# EAGLE library part AX88796L (library asix)
3-in-1 Local Bus Fast Ethernet Controller 10/100BASE 3-in-1 Local CPU Bus Fast Ethernet Controller with Embedded SRAM
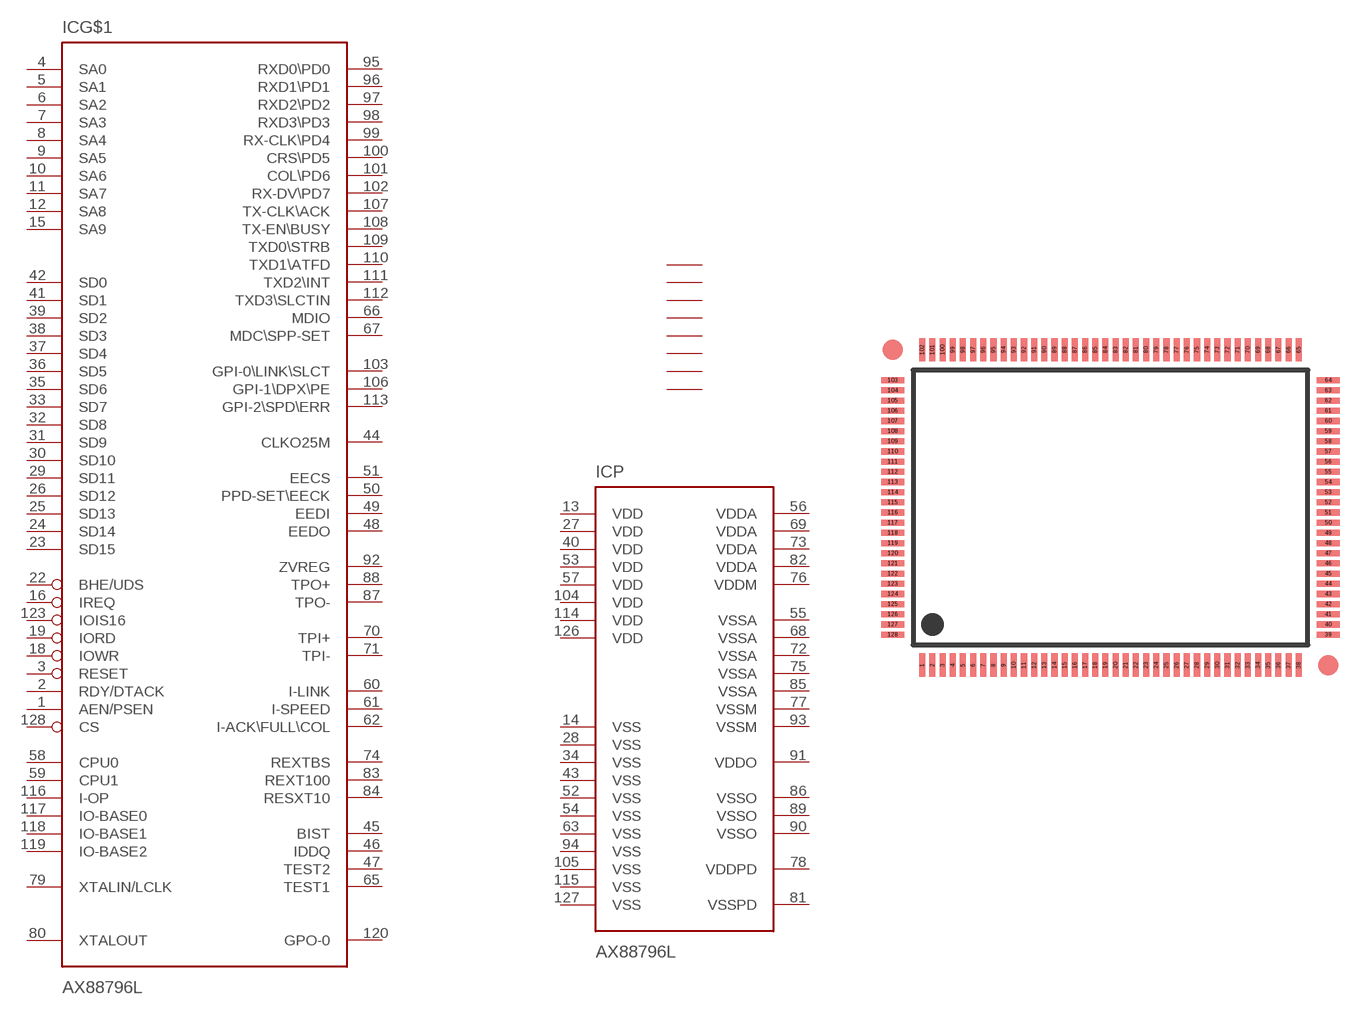
[diagram p0: symbol with the pads of LQFP128-20X14X16; footprint LQFP128-20X14X16]

Designator prefix IC; gates G$1=AX88796 P=POWER N=NONC

## AX88796L  [LQFP128-20X14X16]
1  G$1:AEN/PSEN  in
2  G$1:RDY/DTACK  out
3  G$1:RESET  in
4  G$1:SA0  in
5  G$1:SA1  in
6  G$1:SA2  in
7  G$1:SA3  in
8  G$1:SA4  in
9  G$1:SA5  in
10  G$1:SA6  in
11  G$1:SA7  in
12  G$1:SA8  in
13  P:VDD  pwr
14  P:VSS  pwr
15  G$1:SA9  in
16  G$1:IREQ  out
17  N:P$1  nc
18  G$1:IOWR  in
19  G$1:IORD  in
20  N:P$2  nc
21  N:P$3  nc
22  G$1:BHE/UDS  in
23  G$1:SD15
24  G$1:SD14
25  G$1:SD13
26  G$1:SD12
27  P:VDD  pwr
28  P:VSS  pwr
29  G$1:SD11
30  G$1:SD10
31  G$1:SD9
32  G$1:SD8
33  G$1:SD7
34  P:VSS  pwr
35  G$1:SD6
36  G$1:SD5
37  G$1:SD4
38  G$1:SD3
39  G$1:SD2
40  P:VDD  pwr
41  G$1:SD1
42  G$1:SD0
43  P:VSS  pwr
44  G$1:CLKO25M  out
45  G$1:BIST  in
46  G$1:IDDQ  in
47  G$1:TEST2  in
48  G$1:EEDO  in
49  G$1:EEDI  out
50  G$1:PPD-SET\EECK  out
51  G$1:EECS  out
52  P:VSS  pwr
53  P:VDD  pwr
54  P:VSS  pwr
55  P:VSSA  pwr
56  P:VDDA  pwr
57  P:VDD  pwr
58  G$1:CPU0  in
59  G$1:CPU1  in
60  G$1:I-LINK  out
61  G$1:I-SPEED  out
62  G$1:I-ACK\FULL\COL  out
63  P:VSS  pwr
64  N:P$4  nc
65  G$1:TEST1  in
66  G$1:MDIO
67  G$1:MDC\SPP-SET
68  P:VSSA  pwr
69  P:VDDA  pwr
70  G$1:TPI+  in
71  G$1:TPI-  in
72  P:VSSA  pwr
73  P:VDDA  pwr
74  G$1:REXTBS  in
75  P:VSSA  pwr
76  P:VDDM  pwr
77  P:VSSM  pwr
78  P:VDDPD  pwr
79  G$1:XTALIN/LCLK
80  G$1:XTALOUT
81  P:VSSPD  pwr
82  P:VDDA  pwr
83  G$1:REXT100  in
84  G$1:RESXT10  in
85  P:VSSA  pwr
86  P:VSSO  pwr
87  G$1:TPO-  out
88  G$1:TPO+  out
89  P:VSSO  pwr
90  P:VSSO  pwr
91  P:VDDO  pwr
92  G$1:ZVREG
93  P:VSSM  pwr
94  P:VSS  pwr
95  G$1:RXD0\PD0  in
96  G$1:RXD1\PD1  in
97  G$1:RXD2\PD2  in
98  G$1:RXD3\PD3  in
99  G$1:RX-CLK\PD4  in
100  G$1:CRS\PD5  in
101  G$1:COL\PD6
102  G$1:RX-DV\PD7  in
103  G$1:GPI-0\LINK\SLCT
104  P:VDD  pwr
105  P:VSS  pwr
106  G$1:GPI-1\DPX\PE
107  G$1:TX-CLK\ACK  in
108  G$1:TX-EN\BUSY
109  G$1:TXD0\STRB  out
110  G$1:TXD1\ATFD  out
111  G$1:TXD2\INT  out
112  G$1:TXD3\SLCTIN  out
113  G$1:GPI-2\SPD\ERR
114  P:VDD  pwr
115  P:VSS  pwr
116  G$1:I-OP  in
117  G$1:IO-BASE0  in
118  G$1:IO-BASE1  in
119  G$1:IO-BASE2  in
120  G$1:GPO-0
121  N:P$8  nc
122  N:P$5  nc
123  G$1:IOIS16
124  N:P$6  nc
125  N:P$7  nc
126  P:VDD  pwr
127  P:VSS  pwr
128  G$1:CS  in

## Footprint LQFP128-20X14X16 (pad centres in mm)
LQFP128 IPC7351 - TSQFP50P1600X2200X160-128N
smd 0.3 x 1.15: 1 -9.25,-7.75; 2 -8.75,-7.75; 3 -8.25,-7.75; 4 -7.75,-7.75; 5 -7.25,-7.75; 6 -6.75,-7.75; 7 -6.25,-7.75; 8 -5.75,-7.75; 9 -5.25,-7.75; 10 -4.75,-7.75; 11 -4.25,-7.75; 12 -3.75,-7.75; 13 -3.25,-7.75; 14 -2.75,-7.75; 15 -2.25,-7.75; 16 -1.75,-7.75; 17 -1.25,-7.75; 18 -0.75,-7.75; 19 -0.25,-7.75; 20 0.25,-7.75; 21 0.75,-7.75; 22 1.25,-7.75; 23 1.75,-7.75; 24 2.25,-7.75; 25 2.75,-7.75; 26 3.25,-7.75; 27 3.75,-7.75; 28 4.25,-7.75; 29 4.75,-7.75; 30 5.25,-7.75; 31 5.75,-7.75; 32 6.25,-7.75; 33 6.75,-7.75; 34 7.25,-7.75; 35 7.75,-7.75; 36 8.25,-7.75; 37 8.75,-7.75; 38 9.25,-7.75; 65 9.25,7.75; 66 8.75,7.75; 67 8.25,7.75; 68 7.75,7.75; 69 7.25,7.75; 70 6.75,7.75; 71 6.25,7.75; 72 5.75,7.75; 73 5.25,7.75; 74 4.75,7.75; 75 4.25,7.75; 76 3.75,7.75; 77 3.25,7.75; 78 2.75,7.75; 79 2.25,7.75; 80 1.75,7.75; 81 1.25,7.75; 82 0.75,7.75; 83 0.25,7.75; 84 -0.25,7.75; 85 -0.75,7.75; 86 -1.25,7.75; 87 -1.75,7.75; 88 -2.25,7.75; 89 -2.75,7.75; 90 -3.25,7.75; 91 -3.75,7.75; 92 -4.25,7.75; 93 -4.75,7.75; 94 -5.25,7.75; 95 -5.75,7.75; 96 -6.25,7.75; 97 -6.75,7.75; 98 -7.25,7.75; 99 -7.75,7.75; 100 -8.25,7.75; 101 -8.75,7.75; 102 -9.25,7.75
smd 1.15 x 0.3: 39 10.7,-6.25; 40 10.7,-5.75; 41 10.7,-5.25; 42 10.7,-4.75; 43 10.7,-4.25; 44 10.7,-3.75; 45 10.7,-3.25; 46 10.7,-2.75; 47 10.7,-2.25; 48 10.7,-1.75; 49 10.7,-1.25; 50 10.7,-0.75; 51 10.7,-0.25; 52 10.7,0.25; 53 10.7,0.75; 54 10.7,1.25; 55 10.7,1.75; 56 10.7,2.25; 57 10.7,2.75; 58 10.7,3.25; 59 10.7,3.75; 60 10.7,4.25; 61 10.7,4.75; 62 10.7,5.25; 63 10.7,5.75; 64 10.7,6.25; 103 -10.7,6.25; 104 -10.7,5.75; 105 -10.7,5.25; 106 -10.7,4.75; 107 -10.7,4.25; 108 -10.7,3.75; 109 -10.7,3.25; 110 -10.7,2.75; 111 -10.7,2.25; 112 -10.7,1.75; 113 -10.7,1.25; 114 -10.7,0.75; 115 -10.7,0.25; 116 -10.7,-0.25; 117 -10.7,-0.75; 118 -10.7,-1.25; 119 -10.7,-1.75; 120 -10.7,-2.25; 121 -10.7,-2.75; 122 -10.7,-3.25; 123 -10.7,-3.75; 124 -10.7,-4.25; 125 -10.7,-4.75; 126 -10.7,-5.25; 127 -10.7,-5.75; 128 -10.7,-6.25